# EAGLE library part FTDI (library MrSwirlyEyes)
FTDI Basic header with labels
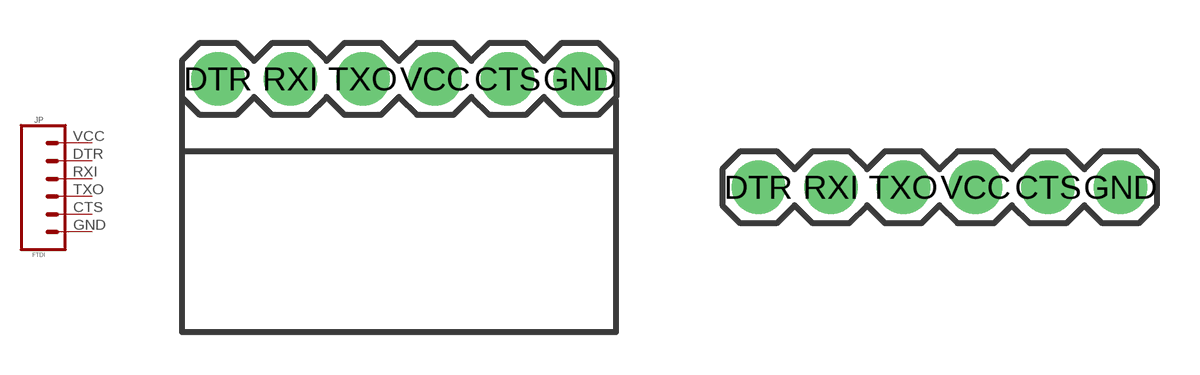
[diagram p10: symbol with the pads of FTDI_BASIC-6PIN-MALE-RA; footprints FTDI_BASIC-6PIN-MALE-RA, FTDI_BASIC-6PIN-MALE-VERT]

Designator prefix JP

## FTDIPTH-RA (DATASHEET: http://portal.fciconnect.com/Comergent//fci/drawing/68015.pdf; DIST: Digikey; DISTPN: 609-3327-ND; MFR: Amphenol FCI; MPN: 68016-406HLF; PRICE: 0.33)  [FTDI_BASIC-6PIN-MALE-RA]
CTS  5  pas
DTR  2  pas
GND  6  pas
RXI  3  pas
TXO  4  pas
VCC  1  pas

## FTDIPTH-VERT (CREATOR: MrSwirlyEyes; DATASHEET: http://www.sullinscorp.com/catalogs/77_PAGE108-109_.100_MALE_HDR.pdf; DIST: Digikey; DISTLINK: https://www.digikey.com/products/en?keywords=PEC06SAAN; DISTPN: S1012E-06-ND; MFR: Sullins Connector Solutions; MPN: PEC06SAAN; TESTED: NO; VALUE: 1x06-MALE-VERT)  [FTDI_BASIC-6PIN-MALE-VERT]
CTS  2  pas
DTR  6  pas
GND  1  pas
RXI  5  pas
TXO  4  pas
VCC  3  pas

## Footprint FTDI_BASIC-6PIN-MALE-RA (pad centres in mm)
drill 1.016 pad 1.88: CTS 10.16,0; DTR 0,0; GND 12.7,0; RXI 2.54,0; TXO 5.08,0; VCC 7.62,0

## Footprint FTDI_BASIC-6PIN-MALE-VERT (pad centres in mm)
drill 1.016 pad 1.88: CTS 10.16,0; DTR 0,0; GND 12.7,0; RXI 2.54,0; TXO 5.08,0; VCC 7.62,0